# EAGLE library part RPI_ZERO (library raspberry_pi)
Raspberry Pi Zero HAT Template for an add on board for a Raspberry Pi Zero.
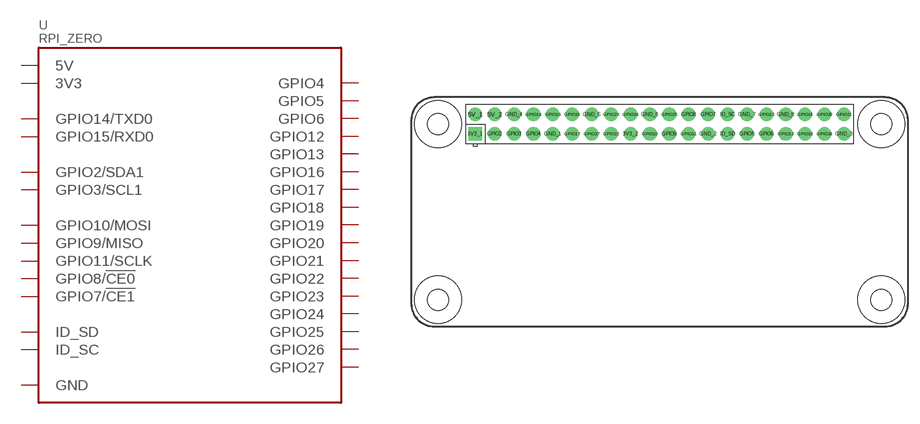
[diagram p0: symbol with the pads of RPI_ZERO_BOARD; footprint RPI_ZERO_BOARD]

Designator prefix -

## RPI_ZERO  [RPI_ZERO_BOARD]
3V3_1  3V3  sup
3V3_2  3V3  sup
5V_1  5V  sup
5V_2  5V  sup
GND_1  GND  sup
GND_2  GND  sup
GND_3  GND  sup
GND_4  GND  sup
GND_5  GND  sup
GND_6  GND  sup
GND_7  GND  sup
GND_8  GND  sup
GPIO2  GPIO2/SDA1
GPIO3  GPIO3/SCL1
GPIO4  GPIO4
GPIO5  GPIO5
GPIO6  GPIO6
GPIO7  GPIO7/!CE1!
GPIO8  GPIO8/!CE0!
GPIO9  GPIO9/MISO
GPIO10  GPIO10/MOSI
GPIO11  GPIO11/SCLK
GPIO12  GPIO12
GPIO13  GPIO13
GPIO14  GPIO14/TXD0
GPIO15  GPIO15/RXD0
GPIO16  GPIO16
GPIO17  GPIO17
GPIO18  GPIO18
GPIO19  GPIO19
GPIO20  GPIO20
GPIO21  GPIO21
GPIO22  GPIO22
GPIO23  GPIO23
GPIO24  GPIO24
GPIO25  GPIO25
GPIO26  GPIO26
GPIO27  GPIO27
ID_SC  ID_SC
ID_SD  ID_SD

## Footprint RPI_ZERO_BOARD (pad centres in mm)
Raspberry Pi board model B+, full outline with position of big connectors & drill holes
drill 1 pad 1.778 square: 3V3_1 8.37,25.23
drill 1 pad 1.778: 3V3_2 28.69,25.23; 5V_1 8.37,27.77; 5V_2 10.91,27.77; GND_1 18.53,25.23; GND_2 38.85,25.23; GND_3 56.63,25.23; GND_4 13.45,27.77; GND_5 23.61,27.77; GND_6 31.23,27.77; GND_7 43.93,27.77; GND_8 49.01,27.77; GPIO2 10.91,25.23; GPIO3 13.45,25.23; GPIO4 15.99,25.23; GPIO5 43.93,25.23; GPIO6 46.47,25.23; GPIO7 38.85,27.77; GPIO8 36.31,27.77; GPIO9 33.77,25.23; GPIO10 31.23,25.23; GPIO11 36.31,25.23; GPIO12 46.47,27.77; GPIO13 49.01,25.23; GPIO14 15.99,27.77; GPIO15 18.53,27.77; GPIO16 51.55,27.77; GPIO17 21.07,25.23; GPIO18 21.07,27.77; GPIO19 51.55,25.23; GPIO20 54.09,27.77; GPIO21 56.63,27.77; GPIO22 26.15,25.23; GPIO23 26.15,27.77; GPIO24 28.69,27.77; GPIO25 33.77,27.77; GPIO26 54.09,25.23; GPIO27 23.61,25.23; ID_SC 41.39,27.77; ID_SD 41.39,25.23
hole 2.75 at 3.5,3.5
hole 2.75 at 3.5,26.5
hole 2.75 at 61.5,3.5
hole 2.75 at 61.5,26.5